# EAGLE library part SWITCH_DPDT (library preamp)
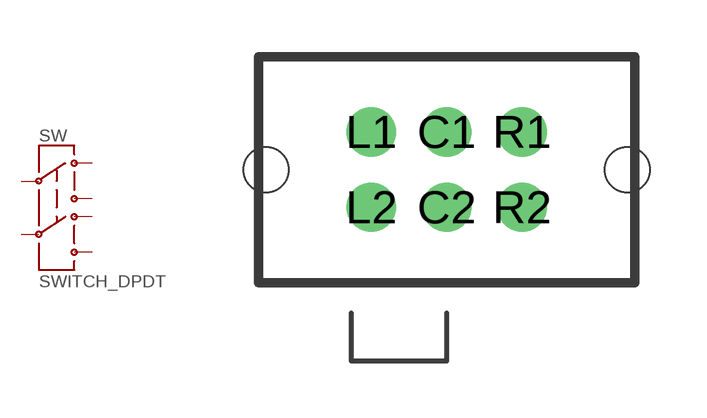
[diagram p0: symbol with the pads of SWITCH-EG2211; footprint SWITCH-EG2211]

Designator prefix SW

## SWITCH_DPDT  [SWITCH-EG2211]
C1  C1
C2  C2
L1  L1
L2  L2
R1  R1
R2  R2

## Footprint SWITCH-EG2211 (pad centres in mm)
drill 0.8: C1 0,1; C2 0,-1; L1 -2,1; L2 -2,-1; R1 2,1; R2 2,-1
hole 1.2 at -4.8,0
hole 1.2 at 4.8,0